# Altium schematic symbol library Diode_Littelfuse_SR05-02CTG_eec.SchLib: 1 symbol
Pins are listed as number, name and electrical type; pins without a type are passive.

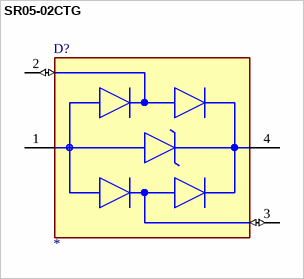
[diagram p0: symbol SR05-02CTG]

## SR05-02CTG
designator D?
Parameter 1: *
footprint Model Name (Footprint not found)
pins: 1 GND (power), 2 I/O 1 (io), 3 I/O 2 (io), 4 VCC (power)